# Altium integrated library TCRT5000L.IntLib: 1 symbol
Pins are listed as number, name and electrical type; pins without a type are passive.

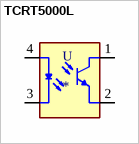
[diagram p0: symbol TCRT5000L]

## TCRT5000L
designator U
Reflective Optical Sensor 0.591 _15mm_ PCB Mount; MP: TCRT5000L; MF: Vishay; Package: PCB Mount Vishay Semiconductor; SnapEDA_Link: https://www.snapeda.com/parts/TCRT5000L/Vishay%20Semiconductor%20Opto%20Division/view-part/229608/?ref=snap; Availability: Unavailable; Value: *; Price: None
footprint XDCR_TCRT5000L
pins: 1 CO, 2 E, 3 C, 4 A